# EAGLE library part CROWTAIL_4PINS_TABS (library Crowtail_Connectors)
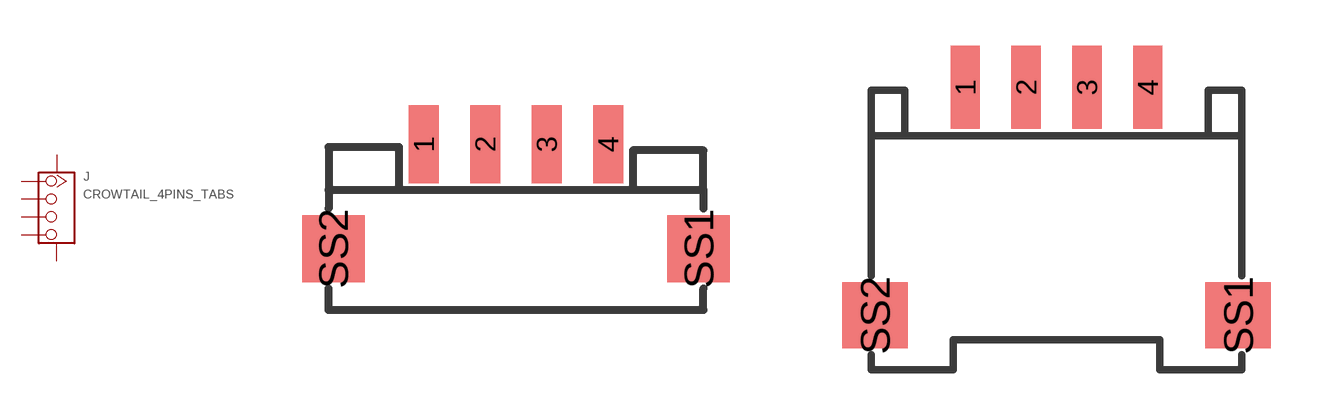
[diagram p0: symbol with the pads of CON_POLAR_SMD_4PINS_180; footprints CON_POLAR_SMD_4PINS_180, CON_POLAR_SMD_4PINS_90]

Designator prefix J

## CROWTAIL_4PINS_TABSSMD_180  [CON_POLAR_SMD_4PINS_180]
1  1
2  2
3  3
4  4
SS1  SS1
SS2  SS2

## CROWTAIL_4PINS_TABSSMD_90  [CON_POLAR_SMD_4PINS_90]
Pads as for CON_POLAR_SMD_4PINS_180

## CROWTAIL_4PINS_TABSSMD_90_NOBUCK  [CON_POLAR_SMD_4PINS_90_W/O_BUCKLE]
Pads as for CON_POLAR_SMD_4PINS_180

## Footprint CON_POLAR_SMD_4PINS_180 (pad centres in mm)
smd 0.965 x 2.54: 1 -3,0; 2 -1,0; 3 1,0; 4 3,0
smd 2.032 x 2.184: SS1 5.946,-3.4; SS2 -5.946,-3.4

## Footprint CON_POLAR_SMD_4PINS_90 (pad centres in mm)
smd 0.965 x 2.74: 1 -3,0.1; 2 -1,0.1; 3 1,0.1; 4 3,0.1
smd 2.159 x 2.184: SS1 5.974,-7.4; SS2 -5.974,-7.4

## Footprint CON_POLAR_SMD_4PINS_90_W/O_BUCKLE (pad centres in mm)
smd 1 x 3.5: 1 -3,0; 2 -1,0; 3 1,0; 4 3,0
smd 1.5 x 3.4: SS1 6,-5.6; SS2 -6,-5.6